# Altium footprint library pcb_lcee.PcbLib: 44 footprints (part 3 of 3)
Each footprint in its own frame and in the unit in brackets; x right, y up, seen from the top. Pads: shape width x height; smd on the part's side, far side on the other; paste and mask are expansions set on the pad; w line width, h text height; cw(c..) or ccw(c..) is an arc to the next point about the centre after c.
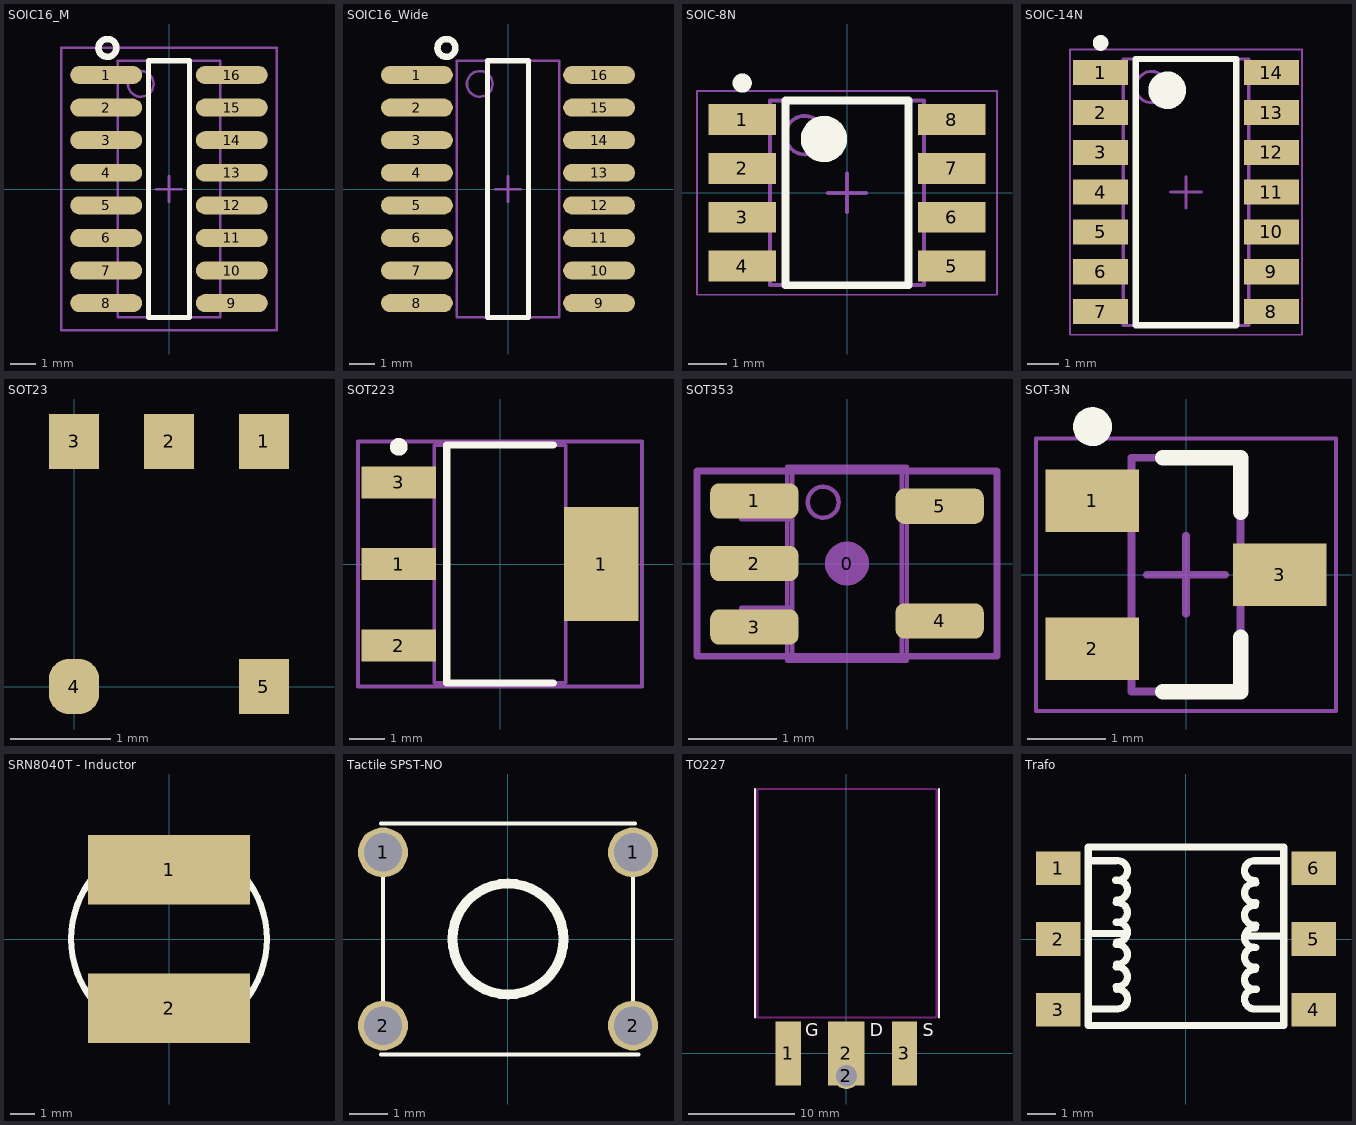
[diagram p2: the footprints below, top view; thin cyan lines are the x and y axes]

## SOIC16_M [mm] "SOIC, 16-Leads, Body 9.9x3.9mm, Pitch 1.27mm, IPC Low Density"
height 1.91
pads (16):
  oval 2.8x0.7 smd: 1(-2.45,4.445) 2(-2.45,3.175) 3(-2.45,1.905) 4(-2.45,0.635) 5(-2.45,-0.635) 6(-2.45,-1.905) 7(-2.45,-3.175) 8(-2.45,-4.445) 9(2.45,-4.445) 10(2.45,-3.175) 11(2.45,-1.905) 12(2.45,-0.635) 13(2.45,0.635) 14(2.45,1.905) 15(2.45,3.175) 16(2.45,4.445)
Top Overlay:
  lines w0.2: -0.8,-5 0.8,-5 0.8,5 -0.8,5 -0.8,-5
  lines w0.254: -2.052,5.53 ccw(c-2.4,5.5) -2.05,5.498
Mechanical 13:
  circle w0.1: c-1.1,4.1 r0.5
  lines w0.1: -2,-5 2,-5 2,5 -2,5 -2,-5
Mechanical 15:
  lines w0.1: -0.5,0 0.5,0 ; 0,-0.5 0,0.5 ; -4.2,-5.5 4.2,-5.5 4.2,5.5 -4.2,5.5 -4.2,-5.5
3D body: height 1.91, standoff 0, extent -2,-5 2,5

## SOIC16_Wide [mm] "SOIC, 16-Leads, Body 9.9x3.9mm, Pitch 1.27mm, IPC Low Density"
height 1.91
pads (16):
  oval 2.8x0.7 smd: 1(-3.55,4.445) 2(-3.55,3.175) 3(-3.55,1.905) 4(-3.55,0.635) 5(-3.55,-0.635) 6(-3.55,-1.905) 7(-3.55,-3.175) 8(-3.55,-4.445) 9(3.55,-4.445) 10(3.55,-3.175) 11(3.55,-1.905) 12(3.55,-0.635) 13(3.55,0.635) 14(3.55,1.905) 15(3.55,3.175) 16(3.55,4.445)
Top Overlay:
  lines w0.2: -0.8,-5 0.8,-5 0.8,5 -0.8,5 -0.8,-5
  lines w0.254: -2.052,5.53 ccw(c-2.4,5.5) -2.05,5.498
Mechanical 13:
  circle w0.1: c-1.1,4.1 r0.5
  lines w0.1: -2,-5 2,-5 2,5 -2,5 -2,-5
Mechanical 15:
  lines w0.1: -0.5,0 0.5,0 ; 0,-0.5 0,0.5
3D body: height 1.91, standoff 0, extent -2,-5 2,5

## SOIC-8N [mm] "SOIC, 8-Leads, Body 4,89x3,90mm, Pitch 1,27mm, IPC Medium Density"
height 3.18
pads (8):
  rect 1.75x0.8 smd: 1(-2.725,1.905) 2(-2.725,0.635) 3(-2.725,-0.635) 4(-2.725,-1.905) 5(2.725,-1.905) 6(2.725,-0.635) 7(2.725,0.635) 8(2.725,1.905)
Top Overlay:
  circle w0.25: c-2.725,2.855 r0.125
  circle w0.6: c-0.6,1.4 r0.3
  lines w0.2: -1.6,-2.4 -1.6,2.4 1.6,2.4 1.6,-2.4 -1.6,-2.4
Mechanical 13:
  circle w0.1: c-1.1,1.5 r0.5
  lines w0.1: -2,-2.4 -2,2.4 2,2.4 2,-2.4 -2,-2.4
Mechanical 15:
  lines w0.05: -3.9,-2.65 -3.9,2.65 3.9,2.65 3.9,-2.65 -3.9,-2.65
  lines w0.1: -0.5,0 0.5,0 ; 0,-0.5 0,0.5
3D body: height 3.18, standoff 0.1, extent -2,-2.4 2,2.4

## SOIC-14N [mm] "SOIC, 14-Leads, Body 8,61x3,90mm, Pitch 1,27mm, IPC Medium Density"
height 1.75
pads (14):
  rect 1.75x0.8 smd: 1(-13.625,19.05) 2(-13.625,17.78) 3(-13.625,16.51) 4(-13.625,15.24) 5(-13.625,13.97) 6(-13.625,12.7) 7(-13.625,11.43) 8(-8.175,11.43) 9(-8.175,12.7) 10(-8.175,13.97) 11(-8.175,15.24) 12(-8.175,16.51) 13(-8.175,17.78) 14(-8.175,19.05)
Top Overlay:
  circle w0.6: c-11.5,18.49 r0.3
  circle w0.25: c-13.625,20 r0.125
  lines w0.2: -12.5,10.99 -9.3,10.99 -9.3,19.49 -12.5,19.49 -12.5,10.99
Mechanical 13:
  circle w0.1: c-12,18.59 r0.5
  lines w0.1: -12.9,10.99 -8.9,10.99 -8.9,19.49 -12.9,19.49 -12.9,10.99
Mechanical 15:
  lines w0.05: -14.6,10.69 -7.2,10.69 -7.2,19.79 -14.6,19.79 -14.6,10.69
  lines w0.1: -11.4,15.24 -10.4,15.24 ; -10.9,14.74 -10.9,15.74
3D body: height 1.75, standoff 0.1, extent -12.9,10.99 -8.9,19.49

## SOT23 [mm] "CURRENT SENSING"
pads (5):
  rect 0.5x0.55 smd: 1(1.9,2.45) 2(0.95,2.45) 3(0,2.45) 5(1.9,0)
  rrect80% 0.5x0.55 smd: 4(0,0)

## SOT223 [mm] "large"
pads (4):
  rect 2.1x0.9 smd: 1(-2.85,0) 2(-2.85,-2.3) 3(-2.85,2.3)
  rect 2.1x3.2 smd: 1(2.85,0)
Top Overlay:
  circle w0.25: c-2.85,3.3 r0.125
  lines w0.2: 1.5,-3.35 -1.5,-3.35 -1.5,3.35 1.5,3.35
Mechanical 13:
  lines w0.1: -1.85,-3.35 -1.85,3.35 1.85,3.35 1.85,-3.35 -1.85,-3.35
Mechanical 15:
  lines w0.1: -4,-3.45 -4,3.45 4,3.45 4,-3.45 -4,-3.45
3D body: height 1.7, standoff 0, extent -1.85,-3.35 1.85,3.35

## SOT353 [mm]
pads (6):
  round 0.5 on Mech15: 0(0,0)
  rrect50% 1x0.4 smd mask+0: 1(-1.05,0.71) 2(-1.05,0) 3(-1.05,-0.72) 4(1.05,-0.65) 5(1.05,0.65)
Top Overlay:
  text "." at -1.3,1.2 h0.1
Mechanical 13:
  circle w0.05: c-0.27,0.695 r0.175
  lines w0.05: -1.028,-0.8 -1.028,-0.5 ; -1.028,-0.15 -1.028,0.15 ; -1.028,0.5 -1.028,0.8 ; -0.937,-0.8 -0.937,-0.5 ; -0.937,-0.15 -0.937,0.15 ; -0.937,0.5 -0.937,0.8 ; -0.925,-0.8 -0.925,-0.5 ; -0.925,-0.15 -0.925,0.15 ; -0.925,0.5 -0.925,0.8 ; 0.925,-0.8 0.925,-0.5 ; 0.925,0.5 0.925,0.8 ; 0.937,-0.8 0.937,-0.5 ; 0.937,0.5 0.937,0.8 ; 1.028,-0.8 1.028,-0.5 ; 1.028,0.5 1.028,0.8 ; -0.675,-1.1 0.675,-1.1 ; -0.675,-1.1 -0.675,1.1 ; -0.675,-1.1 -0.619,-1.044 ; -0.675,1.1 0.675,1.1 ; -0.675,1.1 -0.619,1.044 ; -0.619,-1.044 0.619,-1.044 ; -0.619,-1.044 -0.619,1.044 ; -0.619,1.044 0.619,1.044 ; 0.619,-1.044 0.675,-1.1 ; 0.619,-1.044 0.619,1.044 ; 0.619,1.044 0.675,1.1 ; 0.675,-1.1 0.675,1.1 ; -1.2,-0.8 -1.2,-0.5 -0.654,-0.5 -0.654,-0.8 -1.2,-0.8 ; -1.2,-0.15 -1.2,0.15 -0.654,0.15 -0.654,-0.15 -1.2,-0.15 ; -1.2,0.5 -1.2,0.8 -0.654,0.8 -0.654,0.5 -1.2,0.5 ; 0.654,-0.8 1.2,-0.8 1.2,-0.5 0.654,-0.5 0.654,-0.8 ; 0.654,0.5 1.2,0.5 1.2,0.8 0.654,0.8 0.654,0.5
Mechanical 15:
  lines w0.076: -1.7,-1.05 1.7,-1.05 1.7,1.05 -1.7,1.05 -1.7,-1.05
3D body "SOT353.STEP": height 1.1, standoff 0, extent -1.2,-1.1 1.2,1.1

## SOT-3N [mm] "SOT23, 3-Leads, Body 2,90x2,45mm, Pitch 0,95mm, IPC Medium Density"
height 1.1
pads (3):
  rect 1.2x0.8 smd: 1(-1.2,0.95) 2(-1.2,-0.95) 3(1.2,0)
Top Overlay:
  circle w0.25: c-1.2,1.9 r0.125
  lines w0.2: -0.3,-1.5 0.7,-1.5 0.7,-0.8 ; -0.3,1.5 0.7,1.5 0.7,0.8
Mechanical 13:
  lines w0.1: -0.7,-1.5 -0.7,1.5 0.7,1.5 0.7,-1.5 -0.7,-1.5
Mechanical 15:
  lines w0.05: -1.925,-1.75 -1.925,1.75 1.925,1.75 1.925,-1.75 -1.925,-1.75
  lines w0.1: -0.5,0 0.5,0 ; 0,-0.5 0,0.5
3D body: height 1.1, standoff 0.05, extent -0.7,-1.5 0.7,1.5

## SRN8040T - Inductor [mm]
pads (2):
  rect 6.6x2.85 smd mask+0.05: 1(0,2.825) 2(0,-2.825)
Top Overlay:
  circle w0.254: c0,0 r4

## Tactile SPST-NO [mm] "switch"
pads (4):
  round 1.3 hole 1: 1(-3.25,2.25) 1(3.25,2.25) 2(-3.25,-2.25) 2(3.25,-2.25)
Top Overlay:
  circle w0.254: c0,0 r1.442
  lines w0.1: -3.3,-3 3.4,-3 ; -3.3,3 3.3,3 ; -3.25,-2.25 -3.25,2.25 ; 3.25,-2.25 3.25,2.25

## TO227 [mm]
pads (4):
  rect 2.39x6 smd: 1(-5.46,0) 3(5.46,0)
  round 2.5 hole 2: 2(0,-2.1)
  rect 3.43x6 smd: 2(0,0)
Top Overlay:
  lines w0.2: -8.6,3.38 -8.6,24.88 ; 8.7,3.38 8.7,24.88
  text "G" at -3.9,1.6 h1.2
  text "D" at 2.2,1.6 h1.2
  text "S" at 7.2,1.6 h1.2
Keep-Out Layer:
  lines w0.2: -8.4,3.38 -8.4,24.88 8.4,24.88 8.5,24.78 8.5,3.48 8.4,3.38 -8.4,3.38
3D body: height 2.5, standoff -1, extent -8.499,3.381 8.499,24.879

## Trafo [mm] "transformador smd TI"
pads (6):
  rect 1.6x1.2 smd: 1(-4.57,2.54) 2(-4.57,0) 3(-4.57,-2.54) 4(4.57,-2.54) 5(4.57,0) 6(4.57,2.54)
Top Overlay:
  lines w0.254: -3.499,0.199 -2.1,0.199 ; -3.4,2.8 -2.5,2.8 cw(c-2.45,2.45) -2.518,2.103 ; -3.399,-2.501 -2.489,-2.501 ccw(c-2.45,-2.15) -2.489,-1.799 ; -2.519,2.097 cw(c-2.45,1.75) -2.489,1.399 ; -2.5,-1.7 ccw(c-2.45,-1.35) -2.5,-1 ; -2.5,-0.2 cw(c-2.45,-0.55) -2.489,-0.901 ; -2.5,1.3 cw(c-2.45,0.95) -2.5,0.6 cw(c-2.45,0.25) -2.489,-0.101 ; 2.1,0.101 3.499,0.101 ; 2.489,-1.099 ccw(c2.45,-1.45) 2.519,-1.797 ; 2.489,0.401 ccw(c2.45,0.05) 2.5,-0.3 ccw(c2.45,-0.65) 2.5,-1 ; 2.489,1.201 ccw(c2.45,0.85) 2.5,0.5 ; 2.489,2.099 cw(c2.45,2.45) 2.489,2.801 3.399,2.801 ; 2.5,1.3 cw(c2.45,1.65) 2.5,2 ; 2.518,-1.803 ccw(c2.45,-2.15) 2.5,-2.5 3.4,-2.5 ; 3.5,-1.4 3.5,1.8 ; -3.5,-3.1 -3.5,-1.5 -3.5,1.7 -3.5,3.3 3.5,3.3 3.5,2.6 3.5,-3.1 -3.5,-3.1 ; -3.5,-3.1 -3.5,-3.1 ; -3.5,-3.1 -3.5,-3.1